# Altium integrated library IntLibARMA.IntLib: 3 symbols
Pins are listed as number, name and electrical type; pins without a type are passive.

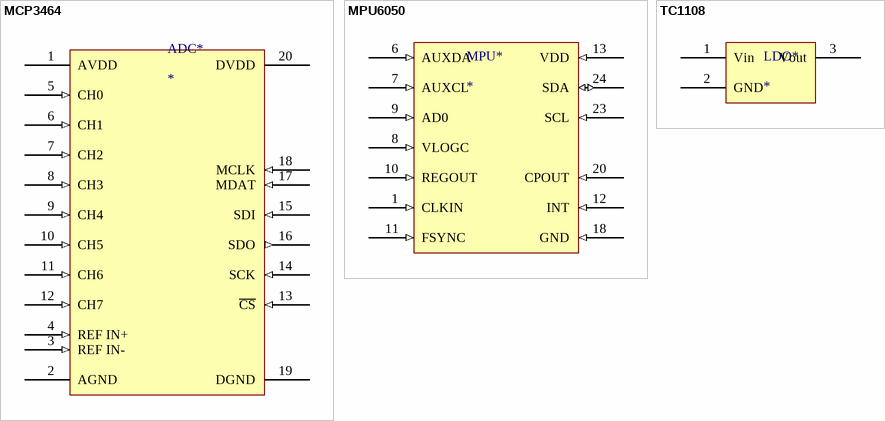
[diagram p0: symbols MCP3464 to TC1108]

## MCP3464
designator ADC*
footprint TSOP65P640X120-20N ADC (TSOP, 20-Leads, Body 6.50x4.40mm, Pitch 0.65mm, IPC Medium Density)
pins: 1 AVDD (power), 2 AGND (power), 3 REF IN- (in), 4 REF IN+ (in), 5 CH0 (in), 6 CH1 (in), 7 CH2 (in), 8 CH3 (in), 9 CH4 (in), 10 CH5 (in), 11 CH6 (in), 12 CH7 (in), 13 ~{CS} (in), 14 SCK (in), 15 SDI (in), 16 SDO (out), 17 MDAT (in), 18 MCLK (in), 19 DGND (power), 20 DVDD (power)

## MPU6050
designator MPU*
footprint QFN50P400X400X95_HS-25N (QFN, 24-Leads, Body 4.00x4.00mm, Pitch 0.50mm, Thermal Pad 2.60x2.70mm, IPC Medium Density)
pins: 1 CLKIN (in), 6 AUXDA (in), 7 AUXCL (in), 8 VLOGC (in), 9 AD0 (in), 10 REGOUT (in), 11 FSYNC (in), 12 INT (in), 13 VDD (in), 18 GND (in), 20 CPOUT (in), 23 SCL (in), 24 SDA (io)

## TC1108
designator LDO*
footprint SOT230P700X180-4N 3V3 LDO (SOT223, 4-Leads, Body 6.50x7.00mm (avg), Pitch 2.30mm, IPC Medium Density)
pins: 1 Vin (power), 2 GND (power), 3 Vout (power)